# Altium footprint library montaje.PcbLib: 5 footprints
Each footprint in its own frame and in the unit in brackets; x right, y up, seen from the top. Pads: shape width x height; smd on the part's side, far side on the other; paste and mask are expansions set on the pad; w line width, h text height; cw(c..) or ccw(c..) is an arc to the next point about the centre after c.
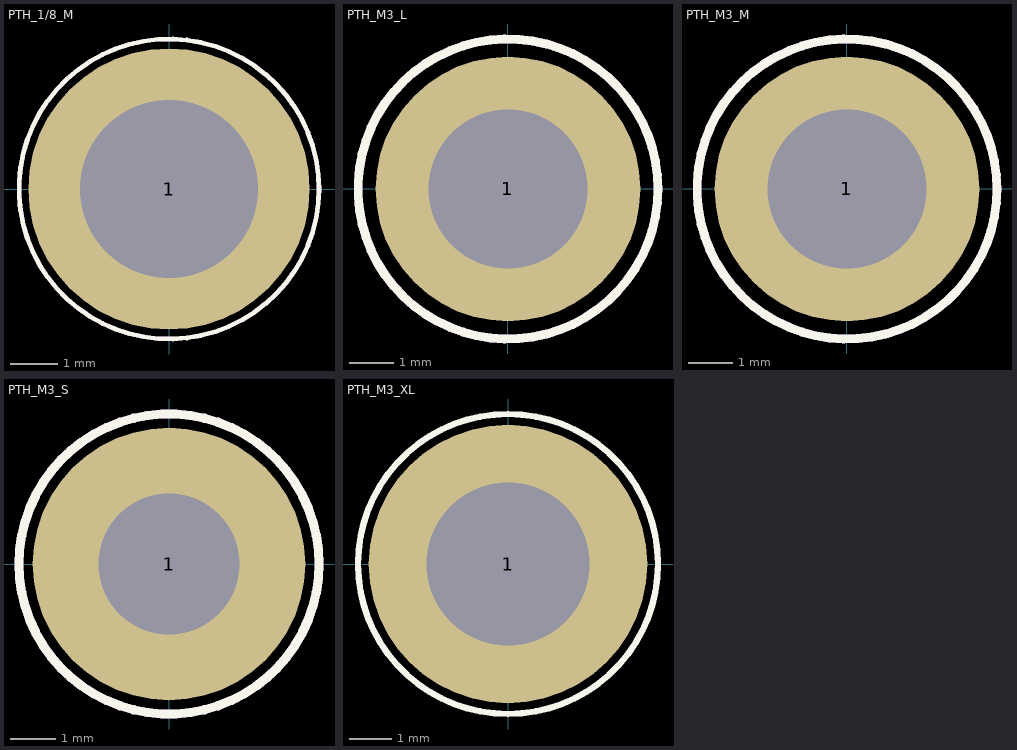
[diagram p0: the footprints below, top view; thin cyan lines are the x and y axes]

## PTH_1/8_M [mm]
pads (1):
  round 6 hole 3.8: 1(0,0)
Top Overlay:
  circle w0.1: c0,0 r3.2
Bottom Overlay:
  circle w0.1: c0,0 r3.2
Top Courtyard (Mech15):
  circle w0.1: c0,0 r3.2
  lines w0.2: -0.6,0 0,0 ; 0,-0.6 0,0 ; 0,0.6 0,0 ; 0.6,0 0,0
  text "'.Designator'" at -1.45,-1.667 h0.25

## PTH_M3_L [mm]
pads (1):
  round 6 hole 3.6: 1(0,0)
Top Overlay:
  circle w0.2: c0,0 r3.4
Bottom Overlay:
  circle w0.2: c0,0 r3.4
Top Courtyard (Mech15):
  circle w0.2: c0,0 r3.4
  lines w0.2: -0.6,0 0,0 ; 0,-0.6 0,0 ; 0,0.6 0,0 ; 0.6,0 0,0
  text "'.Designator'" at -1.458,-2.019 h0.25

## PTH_M3_M [mm]
pads (1):
  round 6 hole 3.6: 1(0,0)
Top Overlay:
  circle w0.2: c0,0 r3.4
Bottom Overlay:
  circle w0.2: c0,0 r3.4
Top Courtyard (Mech15):
  circle w0.2: c0,0 r3.4
  lines w0.2: -0.6,0 0,0 ; 0,-0.6 0,0 ; 0,0.6 0,0 ; 0.6,0 0,0
  text "'.Designator'" at -1.158,-1.919 h0.25

## PTH_M3_S [mm]
pads (1):
  round 6 hole 3.1: 1(0,0)
Top Overlay:
  circle w0.2: c0,0 r3.3
Bottom Overlay:
  circle w0.2: c0,0 r3.3
Top Courtyard (Mech15):
  circle w0.2: c0,0 r3.3
  lines w0.2: -0.6,0 0,0 ; 0,-0.6 0,0 ; 0,0.6 0,0 ; 0.6,0 0,0
  text "'.Designator'" at -1.358,-1.919 h0.25

## PTH_M3_XL [mm]
pads (1):
  round 6.5 hole 3.8: 1(0,0)
Top Overlay:
  circle w0.15: c0,0 r3.5
Bottom Overlay:
  circle w0.15: c0,0 r3.5
Top Courtyard (Mech15):
  circle w0.1: c0,0 r3.5
  lines w0.2: -0.6,0 0,0 ; 0,-0.6 0,0 ; 0,0.6 0,0 ; 0.6,0 0,0
  text "'.Designator'" at -1.258,-2.019 h0.25